# Altium schematic symbol library IRLML2502.Schlib: 1 symbol
Pins are listed as number, name and electrical type; pins without a type are passive.

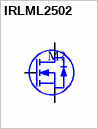
[diagram p0: symbol IRLML2502]

## IRLML2502
designator M?
20V 4.2A N-Channel
pins: 1 G, 2 S, 3 D